# EAGLE library part CC1111 (library ERNW_parts)
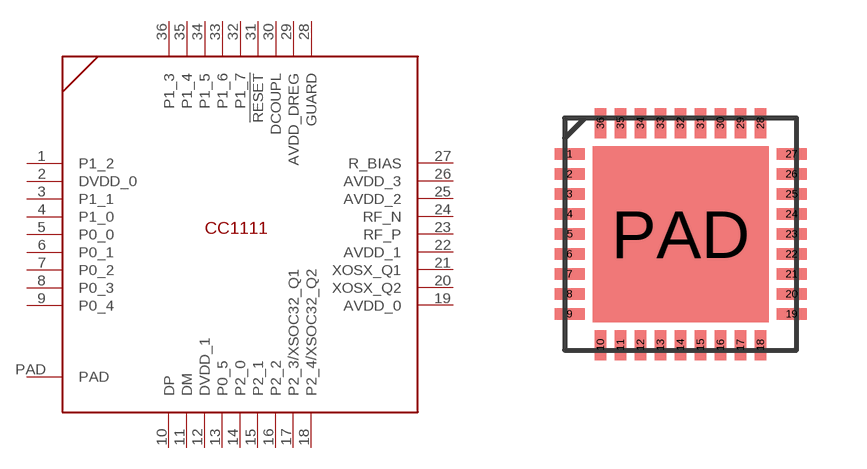
[diagram p0: symbol with the pads of QFN36; footprint QFN36]

Designator prefix -

## CC1111  [QFN36]
1  P1_2
2  DVDD_0
3  P1_1
4  P1_0
5  P0_0
6  P0_1
7  P0_2
8  P0_3
9  P0_4
10  DP
11  DM
12  DVDD_1
13  P0_5
14  P2_0
15  P2_1
16  P2_2
17  P2_3/XSOC32_Q1
18  P2_4/XSOC32_Q2
19  AVDD_0
20  XOSX_Q2
21  XOSX_Q1
22  AVDD_1
23  RF_P
24  RF_N
25  AVDD_2
26  AVDD_3
27  R_BIAS
28  GUARD
29  AVDD_DREG
30  DCOUPL
31  !RESET
32  P1_7
33  P1_6
34  P1_5
35  P1_4
36  P1_3
PAD  PAD

## Footprint QFN36 (pad centres in mm)
smd 0.75 x 0.28: 1 -2.775,2; 2 -2.775,1.5; 3 -2.775,1; 4 -2.775,0.5; 5 -2.775,0; 6 -2.775,-0.5; 7 -2.775,-1; 8 -2.775,-1.5; 9 -2.775,-2; 19 2.775,-2; 20 2.775,-1.5; 21 2.775,-1; 22 2.775,-0.5; 23 2.775,0; 24 2.775,0.5; 25 2.775,1; 26 2.775,1.5; 27 2.775,2
smd 0.28 x 0.75: 10 -2,-2.775; 11 -1.5,-2.775; 12 -1,-2.775; 13 -0.5,-2.775; 14 0,-2.775; 15 0.5,-2.775; 16 1,-2.775; 17 1.5,-2.775; 18 2,-2.775; 28 2,2.775; 29 1.5,2.775; 30 1,2.775; 31 0.5,2.775; 32 0,2.775; 33 -0.5,2.775; 34 -1,2.775; 35 -1.5,2.775; 36 -2,2.775
smd 4.4 x 4.4: PAD 0,0